# EAGLE library part AS3400 (library pavlo)
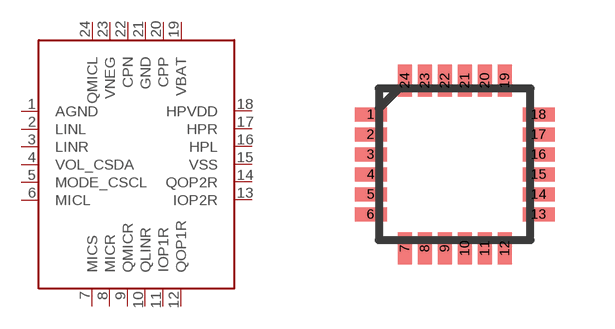
[diagram p12: symbol with the pads of QFN-24-INVEN; footprint QFN-24-INVEN]

Designator prefix -

## AS3400  [QFN-24-INVEN]
1  AGND
2  LINL
3  LINR
4  VOL_CSDA
5  MODE_CSCL
6  MICL
7  MICS
8  MICR
9  QMICR
10  QLINR
11  IOP1R
12  QOP1R
13  IOP2R
14  QOP2R
15  VSS
16  HPL
17  HPR
18  HPVDD
19  VBAT
20  CPP
21  GND
22  CPN
23  VNEG
24  QMICL

## Footprint QFN-24-INVEN (pad centres in mm)
QFN-24-INVEN Auto generated by make-symbol-device-package-bsdl.ulp Rev. 43
smd 0.8 x 0.35: 1 -2.1,1.25; 2 -2.1,0.75; 3 -2.1,0.25; 4 -2.1,-0.25; 5 -2.1,-0.75; 6 -2.1,-1.25; 13 2.1,-1.25; 14 2.1,-0.75; 15 2.1,-0.25; 16 2.1,0.25; 17 2.1,0.75; 18 2.1,1.25
smd 0.35 x 0.8: 7 -1.25,-2.1; 8 -0.75,-2.1; 9 -0.25,-2.1; 10 0.25,-2.1; 11 0.75,-2.1; 12 1.25,-2.1; 19 1.25,2.1; 20 0.75,2.1; 21 0.25,2.1; 22 -0.25,2.1; 23 -0.75,2.1; 24 -1.25,2.1